# Altium integrated library PRO-OB-471.IntLib: 1 symbol
Pins are listed as number, name and electrical type; pins without a type are passive.

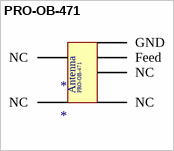
[diagram p0: symbol PRO-OB-471]

## PRO-OB-471
designator *
ComponentLink1Description: New link; ComponentLink1URL: *
footprint PRO-OB-471 (Small antenna for embedded products on the 868 or 915 MHz ISM bands.)
pins: 1 GND GND, 2 RF Feed Feed, 3 NC, 4 NC, 5 NC, 6 NC
text: Antenna